# Altium footprint library Ai-Thinker BU01-Kit DW1000.PcbLib: 1 footprints
Each footprint in its own frame and in the unit in brackets; x right, y up, seen from the top. Pads: shape width x height; smd on the part's side, far side on the other; paste and mask are expansions set on the pad; w line width, h text height; cw(c..) or ccw(c..) is an arc to the next point about the centre after c.
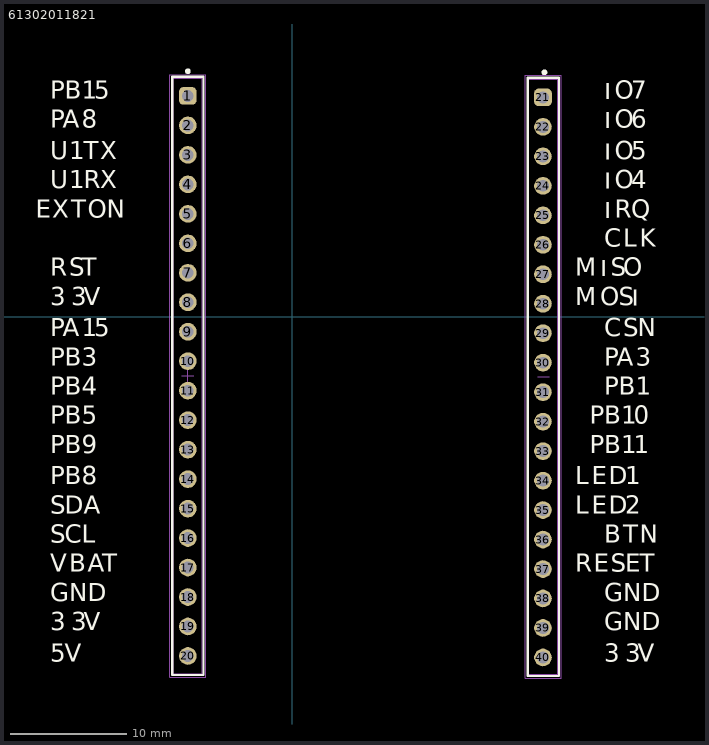
[diagram p0: the footprint, top view; thin cyan lines are the x and y axes]

## 61302011821 [mm] "Socket Header, Pitch 2.54 mm, THT, Vertical, single row, 20p"
height 8.5
pads (40):
  rrect50% 1.52x1.52 hole 1.02: 1(-9.017,19.05) 21(21.59,18.923)
  round 1.52 hole 1.02: 2(-9.017,16.51) 3(-9.017,13.97) 4(-9.017,11.43) 5(-9.017,8.89) 6(-9.017,6.35) 7(-9.017,3.81) 8(-9.017,1.27) 9(-9.017,-1.27) 10(-9.017,-3.81) 11(-9.017,-6.35) 12(-9.017,-8.89) 13(-9.017,-11.43) 14(-9.017,-13.97) 15(-9.017,-16.51) 16(-9.017,-19.05) 17(-9.017,-21.59) 18(-9.017,-24.13) 19(-9.017,-26.67) 20(-9.017,-29.21) 22(21.59,16.383) 23(21.59,13.843) 24(21.59,11.303) 25(21.59,8.763) 26(21.59,6.223) 27(21.59,3.683) 28(21.59,1.143) 29(21.59,-1.397) 30(21.59,-3.937) 31(21.59,-6.477) 32(21.59,-9.017) 33(21.59,-11.557) 34(21.59,-14.097) 35(21.59,-16.637) 36(21.59,-19.177) 37(21.59,-21.717) 38(21.59,-24.257) 39(21.59,-26.797) 40(21.59,-29.337)
Top Overlay:
  circle w0.25: c-9.017,21.18 r0.125
  circle w0.25: c21.717,21.082 r0.125
  lines w0.2: -10.367,-30.855 -7.667,-30.855 -7.667,20.695 -10.367,20.695 -10.367,-30.855 ; 20.273,-30.929 20.273,20.621 22.973,20.621 22.973,-30.929 20.273,-30.929
  text "I" at 26.876,8.048 h2.61
  text "R" at 27.775,8.048 h2.61
  text "Q" at 29.212,8.048 h2.61
  text "C" at 26.876,5.533 h2.61
  text "L" at 28.493,5.533 h2.61
  text "K" at 29.93,5.533 h2.61
  text "M" at 24.368,3.018 h2.61
  text "S" at 27.422,3.018 h2.61
  text "O" at 28.5,3.018 h2.61
  text "I" at 26.524,3.018 h2.61
  text "M" at 24.368,0.503 h2.61
  text "O" at 26.524,0.503 h2.61
  text "S" at 28.14,0.503 h2.61
  text "I" at 29.218,0.503 h2.61
  text "C" at 26.876,-2.191 h2.61
  text "S" at 28.493,-2.191 h2.61
  text "P" at 26.876,-4.706 h2.61
  text "A" at 27.954,-4.706 h2.61
  text "3" at 29.571,-4.706 h2.61
  text "B" at 28.134,-7.221 h2.61
  text "1" at 28.317,-9.736 h2.61
  text "1" at 29.571,-7.221 h2.61
  text "N" at 29.751,-2.191 h2.61
  text "0" at 29.395,-9.736 h2.61
  text "P" at 26.876,-7.221 h2.61
  text "P" at 25.622,-9.736 h2.61
  text "B" at 26.88,-9.736 h2.61
  text "P" at 25.622,-12.25 h2.61
  text "B" at 26.88,-12.25 h2.61
  text "1" at 28.317,-12.25 h2.61
  text "1" at 29.395,-12.25 h2.61
  text "1" at 28.679,-14.945 h2.61
  text "L" at 24.368,-14.945 h2.61
  text "E" at 25.805,-14.945 h2.61
  text "D" at 27.242,-14.945 h2.61
  text "L" at 24.368,-17.46 h2.61
  text "E" at 25.805,-17.46 h2.61
  text "2" at 28.679,-17.46 h2.61
  text "D" at 27.242,-17.46 h2.61
  text "B" at 26.876,-19.974 h2.61
  text "N" at 29.93,-19.974 h2.61
  text "R" at 24.368,-22.489 h2.61
  text "E" at 25.985,-22.489 h2.61
  text "S" at 27.422,-22.489 h2.61
  text "E" at 28.679,-22.489 h2.61
  text "T" at 28.493,-19.974 h2.61
  text "T" at 29.937,-22.489 h2.61
  text "I" at 26.876,18.287 h2.61
  text "O" at 27.775,18.287 h2.61
  text "7" at 29.212,18.287 h2.61
  text "I" at 26.876,15.772 h2.61
  text "O" at 27.775,15.772 h2.61
  text "6" at 29.212,15.772 h2.61
  text "O" at 27.775,13.077 h2.61
  text "5" at 29.212,13.077 h2.61
  text "I" at 26.876,10.563 h2.61
  text "O" at 27.775,10.563 h2.61
  text "4" at 29.212,10.563 h2.61
  text "I" at 26.876,13.077 h2.61
  text "G" at 26.876,-25.004 h2.61
  text "N" at 28.493,-25.004 h2.61
  text "D" at 30.11,-25.004 h2.61
  text "G" at 26.876,-27.519 h2.61
  text "N" at 28.493,-27.519 h2.61
  text "D" at 30.11,-27.519 h2.61
  text "3" at 26.876,-30.213 h2.61
  text "3" at 28.673,-30.213 h2.61
  text "V" at 29.751,-30.213 h2.61
  text "." at 28.134,-30.213 h2.61
  text "U" at -20.86,10.563 h2.61
  text "1" at -19.243,10.563 h2.61
  text "R" at -17.986,10.563 h2.61
  text "E" at -22.114,8.048 h2.61
  text "X" at -20.677,8.048 h2.61
  text "T" at -19.06,8.048 h2.61
  text "O" at -17.623,8.048 h2.61
  text "X" at -16.549,10.563 h2.61
  text "N" at -16.006,8.048 h2.61
  text "R" at -20.86,3.018 h2.61
  text "S" at -19.243,3.018 h2.61
  text "3" at -20.86,0.503 h2.61
  text "." at -19.602,0.503 h2.61
  text "3" at -19.063,0.503 h2.61
  text "V" at -17.986,0.503 h2.61
  text "1" at -18.165,-2.191 h2.61
  text "T" at -18.165,3.018 h2.61
  text "5" at -17.087,-2.191 h2.61
  text "P" at -20.86,-9.736 h2.61
  text "B" at -19.602,-9.736 h2.61
  text "5" at -18.165,-9.736 h2.61
  text "P" at -20.86,-12.25 h2.61
  text "B" at -19.602,-12.25 h2.61
  text "9" at -18.165,-12.25 h2.61
  text "P" at -20.86,-14.945 h2.61
  text "B" at -19.602,-14.945 h2.61
  text "S" at -20.86,-17.46 h2.61
  text "A" at -17.986,-17.46 h2.61
  text "8" at -18.165,-14.945 h2.61
  text "D" at -19.602,-17.46 h2.61
  text "V" at -20.86,-22.489 h2.61
  text "B" at -19.243,-22.489 h2.61
  text "A" at -17.626,-22.489 h2.61
  text "T" at -16.369,-22.489 h2.61
  text "G" at -20.86,-25.004 h2.61
  text "N" at -19.243,-25.004 h2.61
  text "D" at -17.626,-25.004 h2.61
  text "." at -19.602,-27.519 h2.61
  text "3" at -19.063,-27.519 h2.61
  text "V" at -17.986,-27.519 h2.61
  text "5" at -20.86,-30.213 h2.61
  text "3" at -20.86,-27.519 h2.61
  text "V" at -19.602,-30.213 h2.61
  text "P" at -20.86,18.287 h2.61
  text "B" at -19.602,18.287 h2.61
  text "1" at -18.165,18.287 h2.61
  text "P" at -20.86,15.772 h2.61
  text "A" at -19.782,15.772 h2.61
  text "8" at -18.165,15.772 h2.61
  text "U" at -20.86,13.077 h2.61
  text "1" at -19.243,13.077 h2.61
  text "T" at -17.986,13.077 h2.61
  text "X" at -16.549,13.077 h2.61
  text "5" at -17.087,18.287 h2.61
  text "S" at -20.86,-19.974 h2.61
  text "C" at -19.602,-19.974 h2.61
  text "L" at -18.165,-19.974 h2.61
  text "P" at -20.86,-2.191 h2.61
  text "A" at -19.782,-2.191 h2.61
  text "P" at -20.86,-4.706 h2.61
  text "3" at -18.165,-4.706 h2.61
  text "P" at -20.86,-7.221 h2.61
  text "4" at -18.165,-7.221 h2.61
  text "B" at -19.602,-4.706 h2.61
  text "B" at -19.602,-7.221 h2.61
Top Courtyard:
  lines w0.05: -10.567,-31.055 -7.467,-31.055 -7.467,20.895 -10.567,20.895 -10.567,-31.055 ; 20.073,-31.129 20.073,20.821 23.173,20.821 23.173,-31.129 20.073,-31.129
Top Designator:
  text ".Designator" at -8.517,2.418 h1.5
Top Component Outline:
  lines w0.1: -10.267,-30.73 -7.767,-30.73 -7.767,20.57 -10.267,20.57 -10.267,-30.73 ; 20.373,-30.804 20.373,20.496 22.873,20.496 22.873,-30.804 20.373,-30.804
Top Component Center:
  lines w0.05: -9.517,-5.08 -8.517,-5.08 ; -9.017,-5.58 -9.017,-4.58 ; 21.123,-5.154 22.123,-5.154 ; 22.94,-5.707 22.94,-4.707
3D body "61302011821.stp": height 8.55, standoff -3.06, extent -10.267,-30.73 -7.767,20.57
3D body "61302011821.stp": height 8.55, standoff -3.06, extent 20.36,-30.726 22.86,20.574